# Altium schematic symbol library BrewBit.SchLib: 45 symbols
Pins are listed as number, name and electrical type; pins without a type are passive.

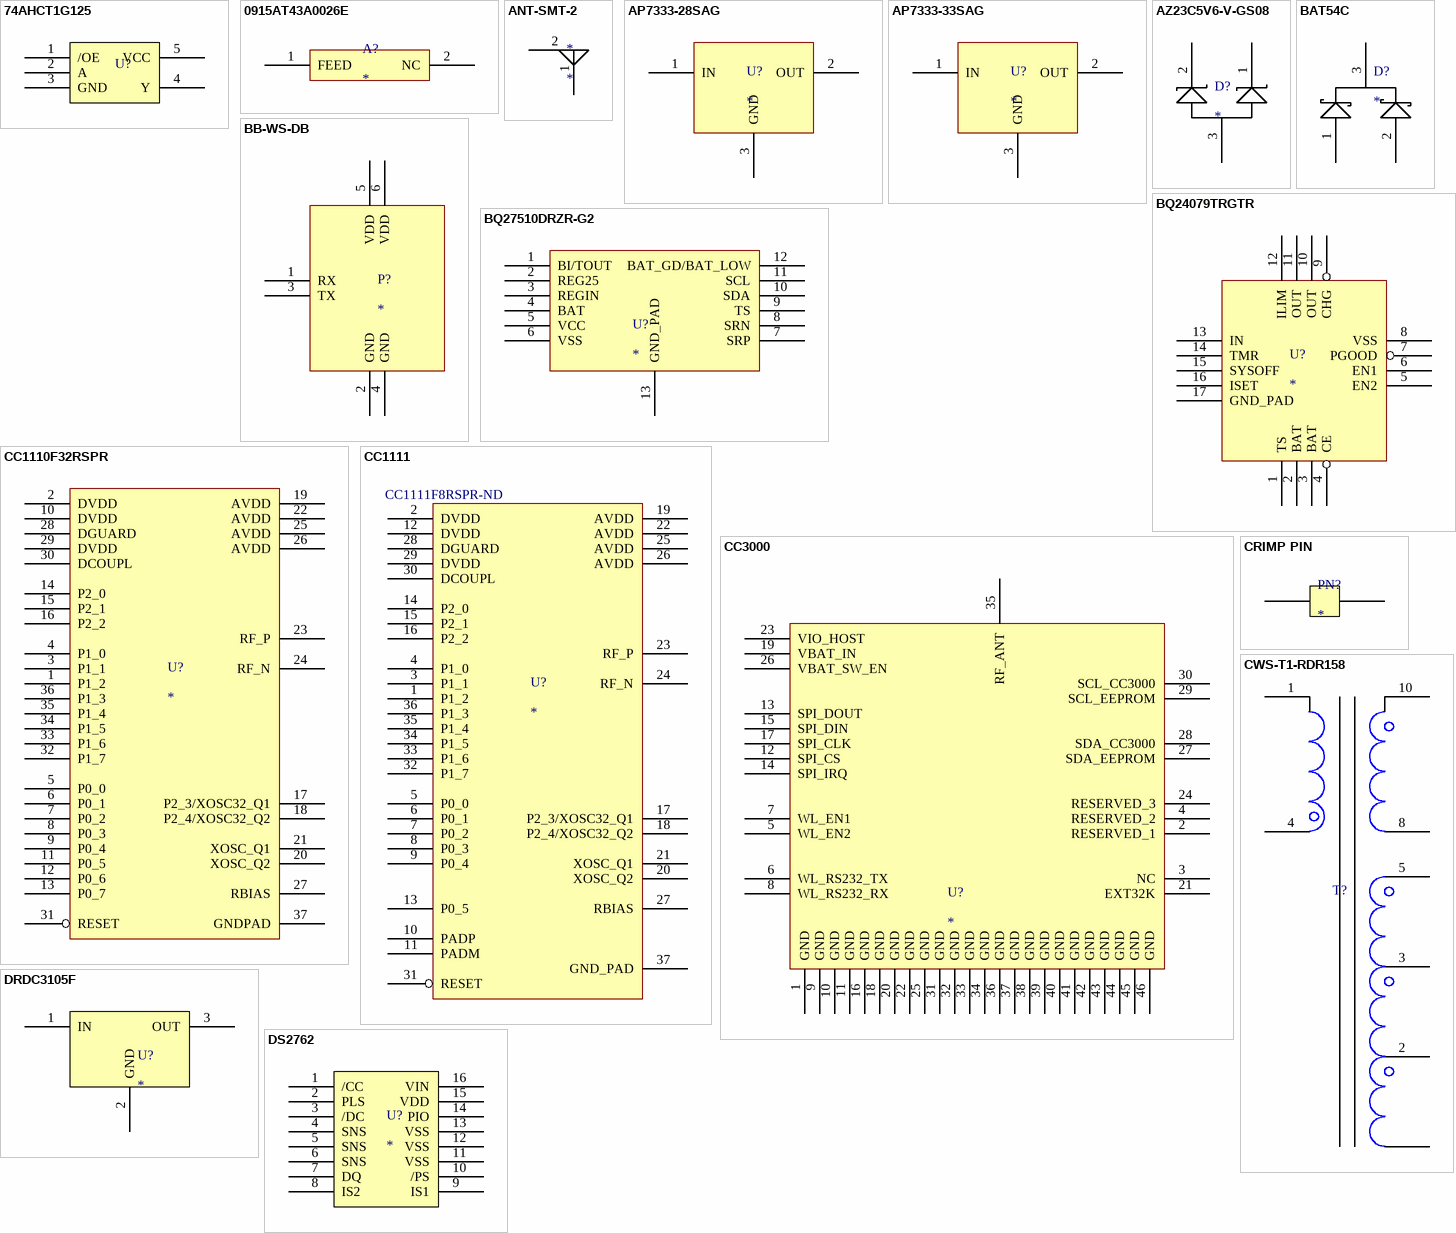
[diagram p0: symbols 74AHCT1G125 to DS2762]

## 74AHCT1G125
designator U?  (value not drawn)
SINGLE BUFFER GATE WITH 3-STATE OUTPUT
pins: 1 /OE, 2 A, 3 GND, 4 Y, 5 VCC

## 0915AT43A0026E
designator A?
RF CHIP ANTENNA 902 - 928MHZ; Manufacturer: Johanson Technology Inc; Manufacturer Part Number: 0915AT43A0026E; Number of Bands: 1; Frequency: 902MHz ~ 928MHz; Gain: -1dBi; Supplier 1: Digi-Key; RoHS: RoHS Compliant; Category: RF/IF and RFID; Stock 1: 832; Pricing 1: 1=1.22, 10=1.022, 25=0.8808, 50=0.8266, 100=0.6525, 250=0.54376, 500=0.48938 (USD); Antenna Type: Chip; VSWR: -; Termination: Surface Mount; Mounting Type: Surface Mount; Height (Max): -; Packaging: Cut Tape (CT); Supplier Part Number 1: 712-1535-1-ND
footprint 0915AT43A0026
pins: 1 FEED, 2 NC

## ANT-SMT-2
designator *
pins: 1, 2

## AP7333-28SAG
designator U?
2.8V LDO Regulator; Supplier 1: Digi-Key; Supplier Part Number 1: AP7333-28SAG-7DICT-ND
footprint SOT23
pins: 1 IN, 2 OUT, 3 GND

## AP7333-33SAG
designator U?
3.3V LDO Regulator; Supplier 1: Digi-Key; Supplier Part Number 1: AP7333-33SAG-7DICT-ND
footprint SOT23
pins: 1 IN, 2 OUT, 3 GND

## AZ23C5V6-V-GS08
designator D?
Zener Diodes 5.6 Volt 0.3W 5% CA; Manufacturer: Vishay Semiconductors; Manufacturer Part Number: AZ23C5V6-V-GS08; Power Dissipation: 300 mW; Zener Current: 5 mA; Maximum Zener Impedance: 40 Ohms; Voltage Temperature Coefficient: 0.02 % / C; Zener Voltage: 5.2 V to 6 V; Supplier 1: Mouser; RoHS: RoHS Compliant By Exemption; Category: Zener Diodes; Stock 1: 26255; Pricing 1: 1=0.070, 10=0.050, 50=0.049, 100=0.048, 500=0.041, 1000=0.038, 3000=0.037, 9000=0.036, 18000=0.035 (USD); Package / Case: SOT-23; Packaging: Reel; Mounting Style: SMD/SMT; Maximum Operating Temperature: + 150 C; Minimum Operating Temperature: - 65 C; Product Category: Zener Diodes; Standard Pack Qty: 15000; Voltage Tolerance: 5 %; RoHS - Mouser: E; Minimum Order Quantity: 1; Reeling: True; ComponentLink1URL: http://www.vishay.com/doc?85759; ComponentLink1Description: http://www.vishay.com/doc?85759; Supplier Part Number 1: 78-AZ23C5V6-V
pins: 1, 2, 3

## BAT54C
designator D?
FAIRCHILD SEMICONDUCTOR - BAT54C - SCHOTTKY RECTIFIER, CMN CTHD 0.2A SOT-23; Diode Configuration: Common Cathode; Repetitive Reverse Voltage Vrrm Max: 30; Forward Current If(AV): 200; Forward Voltage VF Max: 800; Reverse Recovery Time trr Max: 5; Supplier 1: Newark; Manufacturer: FAIRCHILD SEMICONDUCTOR; Manufacturer Part Number: BAT54C; RoHS: YES; Stock 1: 19500; Pricing 1: 1=0.037, 25=0.033, 100=0.033, 250=0.028, 500=0.025, 1000=0.024 (USD); Diode Type: Schottky; ComponentLink1URL: http://www.fairchildsemi.com/ds/BA/BAT54C.pdf; ComponentLink1Description: http://www.fairchildsemi.com/ds/BA/BAT54C.pdf; Supplier Part Number 1: 35C0398
pins: 1, 2, 3

## BB-WS-DB
designator P?
BrewBit Wireless Sensor Daughter Board; Supplier Part Number 1: 3M9359TR-ND; Supplier: Digi-Key
footprint 10 Pin SMT Header (For 951110-4620-AR-PR)
pins: 1 RX, 2 GND, 3 TX, 4 GND, 5 VDD, 6 VDD

## BQ24079TRGTR
designator U?
IC LI-ION CHARGE/PWR MGMT 16QFN; Manufacturer: Texas Instruments; Manufacturer Part Number: BQ24079TRGTR; Function: Charge Management; Battery Chemistry: Lithium-Ion (Li-Ion); Voltage - Supply: 4.35 V ~ 26 V; Supplier 1: Digi-Key; RoHS: RoHS Compliant; Category: Integrated Circuits (ICs); Stock 1: 2351; Pricing 1: 1=2.88, 10=2.58, 25=2.32, 100=2.11, 250=1.91, 500=1.71, 1000=1.44 (USD); Operating Temperature: -40°C ~ 85°C; Mounting Type: Surface Mount; Package / Case: 16-VFQFN Exposed Pad; Supplier Device Package: 16-QFN-EP (3x3); Packaging: Cut Tape (CT); ComponentLink1URL: http://www.ti.com/lit/ds/symlink/bq24075t.pdf; ComponentLink1Description: http://www.ti.com/lit/ds/symlink/bq24075t.pdf; Supplier Part Number 1: 296-25610-1-ND
footprint S-PVQFN-N16
pins: 1 TS, 2 BAT, 3 BAT, 4 CE, 5 EN2, 6 EN1, 7 PGOOD, 8 VSS, 9 CHG, 10 OUT, 11 OUT, 12 ILIM, 13 IN, 14 TMR, 15 SYSOFF, 16 ISET, 17 GND_PAD

## BQ27510DRZR-G2
designator U?
IC BATT FUEL GAUGE LI-ION 12SON; Manufacturer: Texas Instruments; Manufacturer Part Number: BQ27510DRZR-G2; Function: Fuel, Gas Gauge/Monitor; Battery Chemistry: Lithium-Ion (Li-Ion); Voltage - Supply: 2.7 V ~ 5.5 V; Supplier 1: Digi-Key; RoHS: RoHS Compliant; Category: Integrated Circuits (ICs); Stock 1: 1001; Pricing 1: 1=4.18, 10=3.741, 25=3.364, 100=3.0595, 250=2.76952, 500=2.4795, 1000=2.088 (USD); Operating Temperature: -40°C ~ 85°C; Mounting Type: Surface Mount; Package / Case: 12-VFDFN Exposed Pad; Supplier Device Package: 12-SON Exposed Pad (2.5x4); Packaging: Cut Tape (CT); ComponentLink1URL: http://www.ti.com/lit/ds/symlink/bq27510-g2.pdf; ComponentLink1Description: http://www.ti.com/lit/ds/symlink/bq27510-g2.pdf; Supplier 2: Mouser; Supplier Part Number 1: 296-27728-1-ND; Supplier Part Number 2: 595-BQ27510DRZT-G2
footprint S-PDSO-N12
pins: 1 BI/TOUT, 2 REG25, 3 REGIN, 4 BAT, 5 VCC, 6 VSS, 7 SRP, 8 SRN, 9 TS, 10 SDA, 11 SCL, 12 BAT_GD/BAT_LOW, 13 GND_PAD

## CC1110F32RSPR
designator U?
RF Microcontrollers (MCU) True System-on-Chip; Manufacturer: Texas Instruments; Manufacturer Part Number: CC1110F32RSPR; Interface Type: 3-Wire SPI; Supply Voltage (Max): 3.6 V; Supply Voltage (Min): 2 V; Operating Supply Voltage: 2 V to 3.6 V; Supplier 1: Mouser; RoHS: RoHS Compliant; Category: RF Microcontrollers (MCU); Stock 1: 10995; Pricing 1: 1=5.75, 25=4.60, 100=3.68, 250=3.06, 500=2.99, 1000=2.95, 2000=2.90, 2500=2.90 (USD); Operating Temperature Range: - 40 C to + 85 C; Package / Case: QFN-36; Packaging: Reel; Mounting Style: SMD/SMT; Maximum Operating Temperature: + 85 C; Minimum Operating Temperature: - 40 C; Product Category: RF Integrated Circuits; Standard Pack Qty: 2500; RoHS - Mouser: Y; Minimum Order Quantity: 1; Reeling: True; ComponentLink1URL: http://www.ti.com/lit/ds/symlink/cc1110f32.pdf; ComponentLink1Description: http://www.ti.com/lit/ds/symlink/cc1110f32.pdf; Supplier 2: Digi-Key; Supplier Part Number 1: 595-CC1110F32RSPR; Supplier Part Number 2: 296-22740-1-ND
footprint TI_QFP36
pins: 1 P1_2, 2 DVDD, 3 P1_1, 4 P1_0, 5 P0_0, 6 P0_1, 7 P0_2, 8 P0_3, 9 P0_4, 10 DVDD, 11 P0_5, 12 P0_6, 13 P0_7, 14 P2_0, 15 P2_1, 16 P2_2, 17 P2_3/XOSC32_Q1, 18 P2_4/XOSC32_Q2, 19 AVDD, 20 XOSC_Q2, 21 XOSC_Q1, 22 AVDD, 23 RF_P, 24 RF_N, 25 AVDD, 26 AVDD, 27 RBIAS, 28 DGUARD, 29 DVDD, 30 DCOUPL, 31 RESET, 32 P1_7, 33 P1_6, 34 P1_5, 35 P1_4, 36 P1_3, 37 GNDPAD

## CC1111
designator U?  Supplier Part Number 3: CC1111F8RSPR-ND
RF Microcontrollers (MCU) True System-on-Chip; Manufacturer: Texas Instruments; Manufacturer Part Number: CC1110F32RSPR; Interface Type: 3-Wire SPI; Supply Voltage (Max): 3.6 V; Supply Voltage (Min): 2 V; Operating Supply Voltage: 2 V to 3.6 V; Supplier 1: Mouser; RoHS: RoHS Compliant; Category: RF Microcontrollers (MCU); Stock 1: 10995; Pricing 1: 1=5.75, 25=4.60, 100=3.68, 250=3.06, 500=2.99, 1000=2.95, 2000=2.90, 2500=2.90 (USD); Operating Temperature Range: - 40 C to + 85 C; Package / Case: QFN-36; Packaging: Reel; Mounting Style: SMD/SMT; Maximum Operating Temperature: + 85 C; Minimum Operating Temperature: - 40 C; Product Category: RF Integrated Circuits; Standard Pack Qty: 2500; RoHS - Mouser: Y; Minimum Order Quantity: 1; Reeling: True; ComponentLink1URL: http://www.ti.com/lit/ds/symlink/cc1110f32.pdf; ComponentLink1Description: http://www.ti.com/lit/ds/symlink/cc1110f32.pdf; Supplier 2: Digi-Key; Supplier Part Number 1: 595-CC1110F32RSPR; Supplier Part Number 2: 296-22740-1-ND; Supplier 3: Digi-Key
footprint TI_QFP36
pins: 1 P1_2, 2 DVDD, 3 P1_1, 4 P1_0, 5 P0_0, 6 P0_1, 7 P0_2, 8 P0_3, 9 P0_4, 10 PADP, 11 PADM, 12 DVDD, 13 P0_5, 14 P2_0, 15 P2_1, 16 P2_2, 17 P2_3/XOSC32_Q1, 18 P2_4/XOSC32_Q2, 19 AVDD, 20 XOSC_Q2, 21 XOSC_Q1, 22 AVDD, 23 RF_P, 24 RF_N, 25 AVDD, 26 AVDD, 27 RBIAS, 28 DGUARD, 29 DVDD, 30 DCOUPL, 31 RESET, 32 P1_7, 33 P1_6, 34 P1_5, 35 P1_4, 36 P1_3, 37 GND_PAD

## CC3000
designator U?
CC3000 WLAN Module
footprint CC3000 (CC3000 WLAN Module)
pins: 1 GND, 2 RESERVED_1, 3 NC, 4 RESERVED_2, 5 WL_EN2, 6 WL_RS232_TX, 7 WL_EN1, 8 WL_RS232_RX, 9 GND, 10 GND, 11 GND, 12 SPI_CS, 13 SPI_DOUT, 14 SPI_IRQ, 15 SPI_DIN, 16 GND, 17 SPI_CLK, 18 GND, 19 VBAT_IN, 20 GND, 21 EXT32K, 22 GND, 23 VIO_HOST, 24 RESERVED_3, 25 GND, 26 VBAT_SW_EN, 27 SDA_EEPROM, 28 SDA_CC3000, 29 SCL_EEPROM, 30 SCL_CC3000, 31 GND, 32 GND, 33 GND, 34 GND, 35 RF_ANT, 36 GND, 37 GND, 38 GND, 39 GND, 40 GND, 41 GND, 42 GND, 43 GND, 44 GND, 45 GND, 46 GND

## CRIMP PIN
designator PN?
CRIMP PIN
pins: ?1, ?2

## CWS-T1-RDR158
designator T?
Flyback transformer
footprint CWS-T1-RDR158
pins: 1, 2, 3, 4, 5, 8, 10

## DRDC3105F
designator U?
INTEGRATED RELAY, INDUCTIVE LOAD DRIVER; Supplier Part Number 1: DRDC3105F-7DICT-ND; Supplier 1: Digi-Key
footprint SOT23
pins: 1 IN, 2 GND, 3 OUT

## DS2762
designator U?
High-Precision Li+ Battery Monitor With Alerts; Supplier 1: Digi-Key; Supplier Part Number 1: DS2762AE+-ND
footprint TSSOP-16
pins: 1 /CC, 2 PLS, 3 /DC, 4 SNS, 5 SNS, 6 SNS, 7 DQ, 8 IS2, 9 IS1, 10 /PS, 11 VSS, 12 VSS, 13 VSS, 14 PIO, 15 VDD, 16 VIN

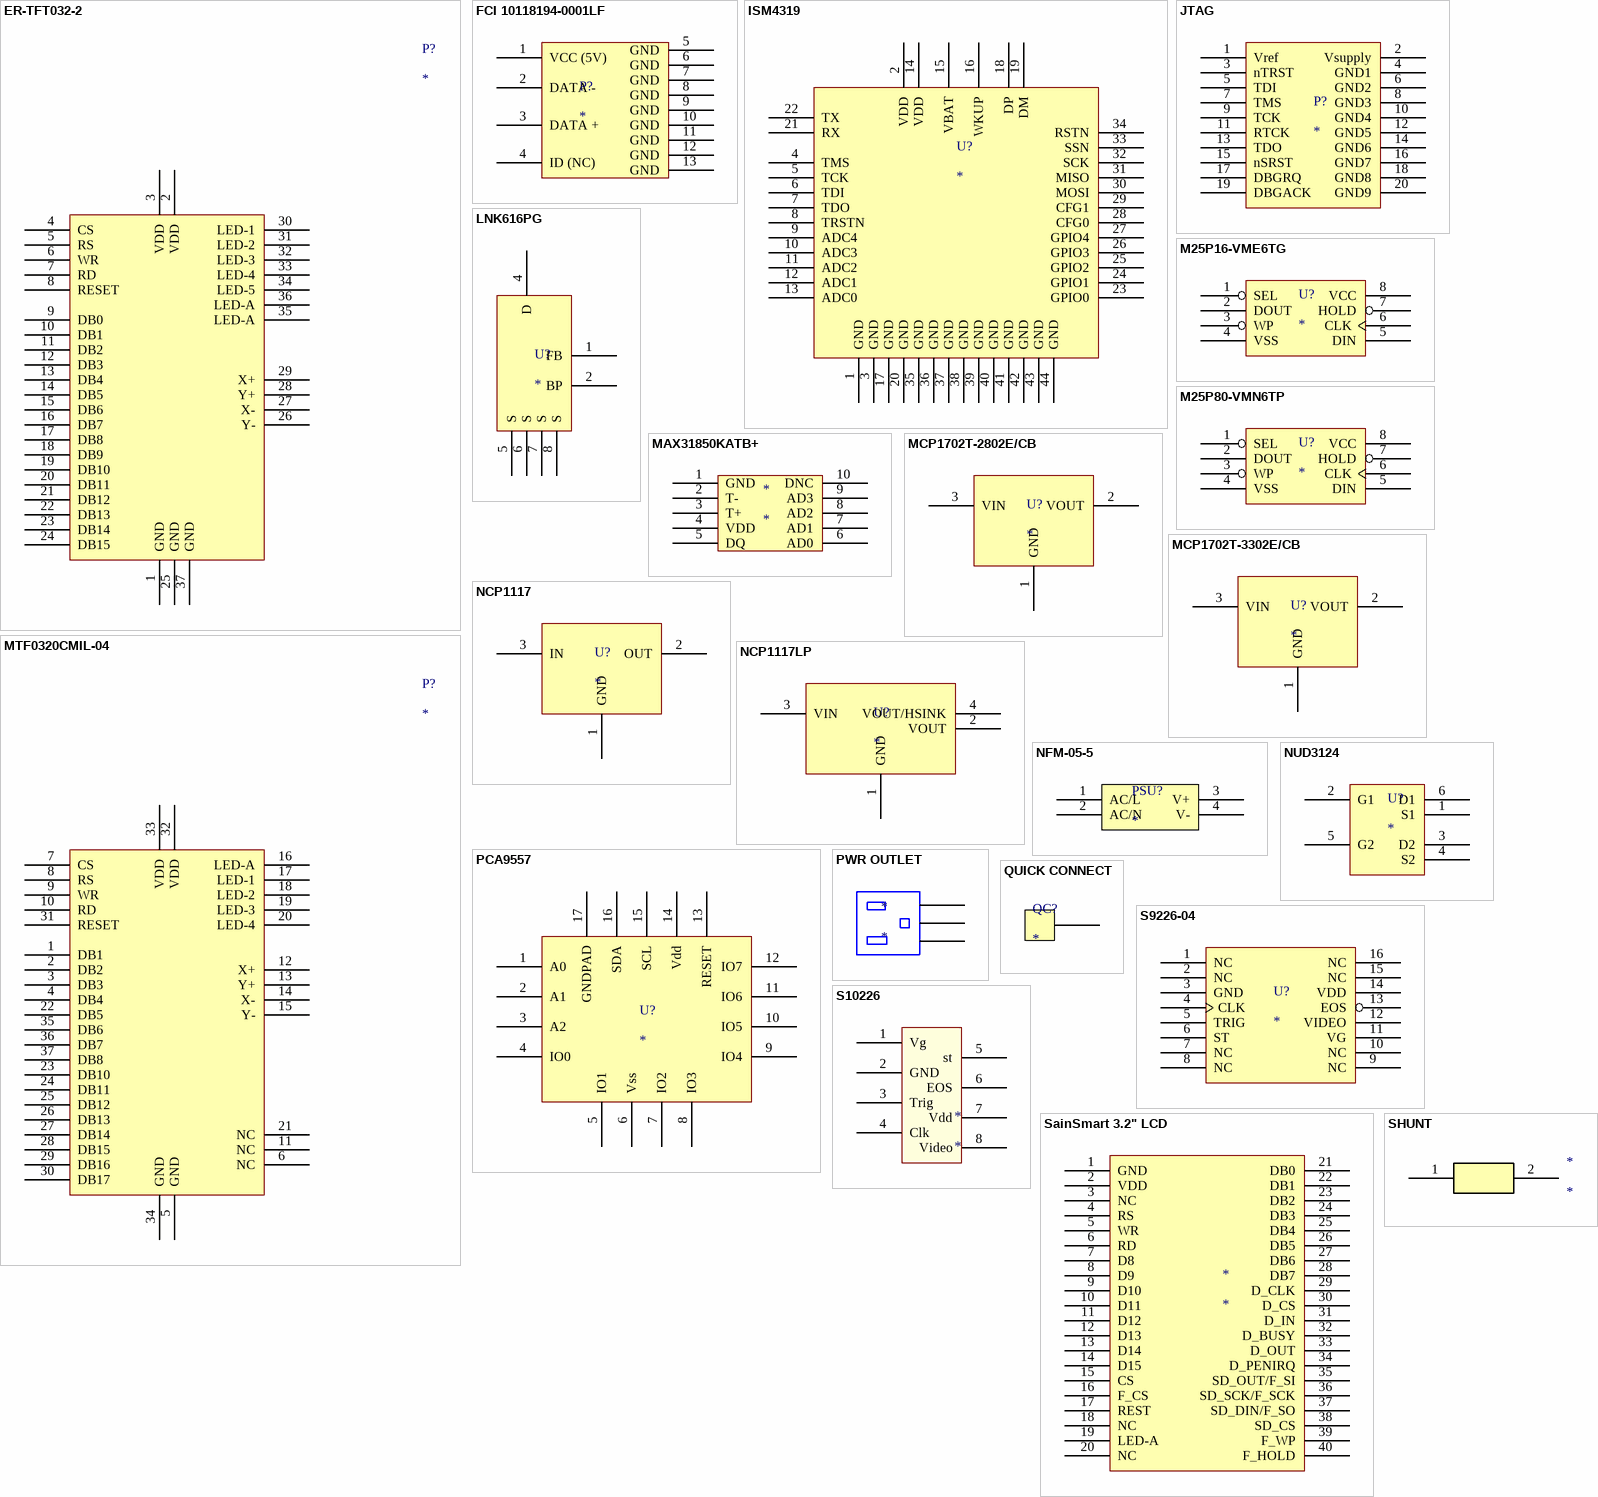
[diagram p1: symbols ER-TFT032-2 to SHUNT]

## ER-TFT032-2
designator P?
3.2" TFT LCD module with touch panel
footprint ER-TFT032-2 (East Rising 3.2" TFT LCD)
pins: 1 GND, 2 VDD, 3 VDD, 4 CS, 5 RS, 6 WR, 7 RD, 8 RESET, 9 DB0, 10 DB1, 11 DB2, 12 DB3, 13 DB4, 14 DB5, 15 DB6, 16 DB7, 17 DB8, 18 DB9, 19 DB10, 20 DB11, 21 DB12, 22 DB13, 23 DB14, 24 DB15, 25 GND, 26 Y-, 27 X-, 28 Y+, 29 X+, 30 LED-1, 31 LED-2, 32 LED-3, 33 LED-4, 34 LED-5, 35 LED-A, 36 LED-A, 37 GND

## FCI 10118194-0001LF
designator P?
CONN USB MICRO B RECPT SMT R/A
footprint CONN USB MICRO B RECPT SMT R/A
pins: 1 VCC (5V), 2 DATA -, 3 DATA +, 4 ID (NC), 5 GND, 6 GND, 7 GND, 8 GND, 9 GND, 10 GND, 11 GND, 12 GND, 13 GND

## ISM4319
designator U?
Inventek Systems WiFi Module
footprint ISM-WIFI
pins: 1 GND, 2 VDD, 3 GND, 4 TMS, 5 TCK, 6 TDI, 7 TDO, 8 TRSTN, 9 ADC4, 10 ADC3, 11 ADC2, 12 ADC1, 13 ADC0, 14 VDD, 15 VBAT, 16 WKUP, 17 GND, 18 DP, 19 DM, 20 GND, 21 RX, 22 TX, 23 GPIO0, 24 GPIO1, 25 GPIO2, 26 GPIO3, 27 GPIO4, 28 CFG0, 29 CFG1, 30 MOSI, 31 MISO, 32 SCK, 33 SSN, 34 RSTN, 35 GND, 36 GND, 37 GND, 38 GND, 39 GND, 40 GND, 41 GND, 42 GND, 43 GND, 44 GND

## JTAG
designator P?
Standard JTAG Header; Supplier Part Number 1: S9172-ND; Supplier 1: Digi-Key
footprint JTAG Header (SBH11-PBPC-D10-ST-BK)
pins: 1 Vref, 2 Vsupply, 3 nTRST, 4 GND1, 5 TDI, 6 GND2, 7 TMS, 8 GND3, 9 TCK, 10 GND4, 11 RTCK, 12 GND5, 13 TDO, 14 GND6, 15 nSRST, 16 GND7, 17 DBGRQ, 18 GND8, 19 DBGACK, 20 GND9

## LNK616PG
designator U?
Energy-Efficient, Accurate CV/CC Switcher  for Adapters and Chargers
footprint LNK6XX
pins: 1 FB, 2 BP, 4 D, 5 S, 6 S, 7 S, 8 S

## M25P16-VME6TG
designator U?
IC FLASH 16MBIT 75MHZ 8VDFPN; Manufacturer: Micron Technology Inc; Manufacturer Part Number: M25P16-VME6TG; Memory Type: FLASH - Nor; Memory Size: 16M (2M x 8); Interface: SPI Serial; Voltage - Supply: 2.7 V ~ 3.6 V; Supplier 1: Digi-Key; RoHS: RoHS Compliant; Category: Integrated Circuits (ICs); Stock 1: 3584; Pricing 1: 1=1.17, 10=1.062, 25=1.0488, 50=1.0428, 100=0.9322, 250=0.92436, 500=0.91066, 1000=0.87785 (USD); Format - Memory: FLASH; Speed: 75MHz; Operating Temperature: -40°C ~ 85°C; Package / Case: 8-VDFN Exposed Pad; Supplier Device Package: 8-VDFPN (MLP8) (8x6); Packaging: Cut Tape (CT); ComponentLink1URL: http://media.digikey.com/pdf/Data%20Sheets/Numonyx,Intel/M25P16.pdf; ComponentLink1Description: http://media.digikey.com/pdf/Data%20Sheets/Numonyx,Intel/M25P16.pdf; Supplier Part Number 1: M25P16-VME6TGCT-ND
footprint VQFNPN8
pins: 1 SEL, 2 DOUT, 3 WP, 4 VSS, 5 DIN, 6 CLK, 7 HOLD, 8 VCC

## M25P80-VMN6TP
designator U?
IC FLASH 8MBIT 75MHZ SO8N; Supplier 1: Digi-Key; Supplier Part Number 1: M25P80-VMN6TPCT-ND
footprint SO8N
pins: 1 SEL, 2 DOUT, 3 WP, 4 VSS, 5 DIN, 6 CLK, 7 HOLD, 8 VCC

## MAX31850KATB+
designator *
pins: 1 GND, 2 T-, 3 T+, 4 VDD, 5 DQ, 6 AD0, 7 AD1, 8 AD2, 9 AD3, 10 DNC

## MCP1702T-2802E/CB
designator U?
2.8V LDO Regulator; Supplier 1: Digi-Key; Supplier Part Number 1: MCP1702T-2802E/CBCT-ND
footprint SOT23
pins: 1 GND, 2 VOUT, 3 VIN

## MCP1702T-3302E/CB
designator U?
3.3V LDO Regulator; Supplier 1: Digi-Key
footprint SOT23
pins: 1 GND, 2 VOUT, 3 VIN

## MTF0320CMIL-04
designator P?
3.2" TFT LCD module with touch panel
footprint 37 Pin 1mm pitch FPC
pins: 1 DB1, 2 DB2, 3 DB3, 4 DB4, 5 GND, 6 NC, 7 CS, 8 RS, 9 WR, 10 RD, 11 NC, 12 X+, 13 Y+, 14 X-, 15 Y-, 16 LED-A, 17 LED-1, 18 LED-2, 19 LED-3, 20 LED-4, 21 NC, 22 DB5, 23 DB10, 24 DB11, 25 DB12, 26 DB13, 27 DB14, 28 DB15, 29 DB16, 30 DB17, 31 RESET, 32 VDD, 33 VDD, 34 GND, 35 DB6, 36 DB7, 37 DB8

## NCP1117
designator U?
3.3V LDO Regulator
footprint 369C
pins: 1 GND, 2 OUT, 3 IN

## NCP1117LP
designator U?
1.0 A Low-Dropout Positive  Fixed and Adjustable  Voltage Regulators; Supplier 1: Digi-Key; Supplier Part Number 1: NCP1117LPST33T3GOSCT-ND
footprint SOT-223
pins: 1 GND, 2 VOUT, 3 VIN, 4 VOUT/HSINK

## NFM-05-5
designator PSU?
5V 5W AC/DC Power Supply
footprint NFM-05-5 (5V 5W AC/DC power supply)
pins: 1 AC/L, 2 AC/N, 3 V+, 4 V-

## NUD3124
designator U?
Automotive Inductive Load  Driver
pins: 1 S1, 2 G1, 3 D2, 4 S2, 5 G2, 6 D1

## PCA9557
designator U?
8 channel IO expander
footprint PCA9557BS
pins: 1 A0, 2 A1, 3 A2, 4 IO0, 5 IO1, 6 Vss, 7 IO2, 8 IO3, 9 IO4, 10 IO5, 11 IO6, 12 IO7, 13 RESET, 14 Vdd, 15 SCL, 16 SDA, 17 GNDPAD

## PWR OUTLET
designator *
pins: ?1, ?2, ?3

## QUICK CONNECT
designator QC?
QUICK CONNECT
pins: ?1

## S9226-04
designator U?
CMOS linear image sensor designed for image input applications
footprint S9226-04
pins: 1 NC, 2 NC, 3 GND, 4 CLK, 5 TRIG, 6 ST, 7 NC, 8 NC, 9 NC, 10 NC, 11 VG, 12 VIDEO, 13 EOS, 14 VDD, 15 NC, 16 NC

## S10226
designator *
Hamamatsu 1024 CMOS image sensor
footprint S10226
pins: 1 Vg, 2 GND, 3 Trig, 4 Clk, 5 st, 6 EOS, 7 Vdd, 8 Video

## SainSmart 3.2" LCD
designator *
footprint HDR2x20
pins: 1 GND, 2 VDD, 3 NC, 4 RS, 5 WR, 6 RD, 7 D8, 8 D9, 9 D10, 10 D11, 11 D12, 12 D13, 13 D14, 14 D15, 15 CS, 16 F_CS, 17 REST, 18 NC, 19 LED-A, 20 NC, 21 DB0, 22 DB1, 23 DB2, 24 DB3, 25 DB4, 26 DB5, 27 DB6, 28 DB7, 29 D_CLK, 30 D_CS, 31 D_IN, 32 D_BUSY, 33 D_OUT, 34 D_PENIRQ, 35 SD_OUT/F_SI, 36 SD_SCK/F_SCK, 37 SD_DIN/F_SO, 38 SD_CS, 39 F_WP, 40 F_HOLD

## SHUNT
designator *
Supplier Part Number 1: 952-1474-1-ND; Supplier 1: Digi-Key
footprint SHUNT - 8mm pitch
pins: 1, 2

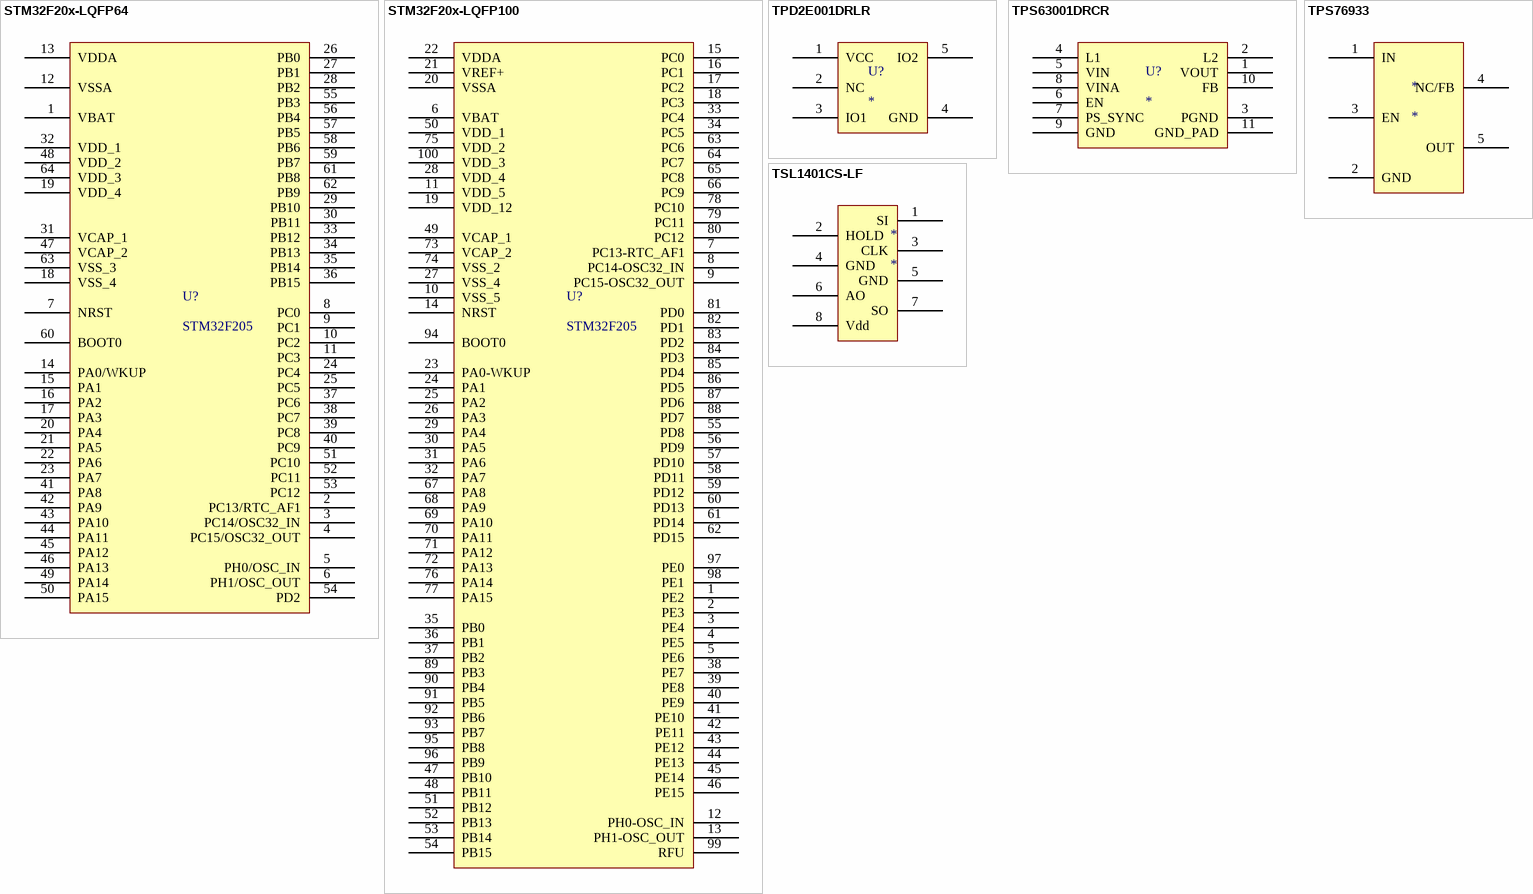
[diagram p2: symbols STM32F20x-LQFP64 to TSL1401CS-LF]

## STM32F20x-LQFP64
designator U?, comment STM32F205
STMicroelectronics STM32F20x LQFP64
footprint LQFP64
pins: 1 VBAT, 2 PC13/RTC_AF1, 3 PC14/OSC32_IN, 4 PC15/OSC32_OUT, 5 PH0/OSC_IN, 6 PH1/OSC_OUT, 7 NRST, 8 PC0, 9 PC1, 10 PC2, 11 PC3, 12 VSSA, 13 VDDA, 14 PA0/WKUP, 15 PA1, 16 PA2, 17 PA3, 18 VSS_4, 19 VDD_4, 20 PA4, 21 PA5, 22 PA6, 23 PA7, 24 PC4, 25 PC5, 26 PB0, 27 PB1, 28 PB2, 29 PB10, 30 PB11, 31 VCAP_1, 32 VDD_1, 33 PB12, 34 PB13, 35 PB14, 36 PB15, 37 PC6, 38 PC7, 39 PC8, 40 PC9, 41 PA8, 42 PA9, 43 PA10, 44 PA11, 45 PA12, 46 PA13, 47 VCAP_2, 48 VDD_2, 49 PA14, 50 PA15, 51 PC10, 52 PC11, 53 PC12, 54 PD2, 55 PB3, 56 PB4, 57 PB5, 58 PB6, 59 PB7, 60 BOOT0, 61 PB8, 62 PB9, 63 VSS_3, 64 VDD_3

## STM32F20x-LQFP100
designator U?, comment STM32F205
STMicroelectronics STM32F20x LQFP100
footprint LQFP-100
pins: 1 PE2, 2 PE3, 3 PE4, 4 PE5, 5 PE6, 6 VBAT, 7 PC13-RTC_AF1, 8 PC14-OSC32_IN, 9 PC15-OSC32_OUT, 10 VSS_5, 11 VDD_5, 12 PH0-OSC_IN, 13 PH1-OSC_OUT, 14 NRST, 15 PC0, 16 PC1, 17 PC2, 18 PC3, 19 VDD_12, 20 VSSA, 21 VREF+, 22 VDDA, 23 PA0-WKUP, 24 PA1, 25 PA2, 26 PA3, 27 VSS_4, 28 VDD_4, 29 PA4, 30 PA5, 31 PA6, 32 PA7, 33 PC4, 34 PC5, 35 PB0, 36 PB1, 37 PB2, 38 PE7, 39 PE8, 40 PE9, 41 PE10, 42 PE11, 43 PE12, 44 PE13, 45 PE14, 46 PE15, 47 PB10, 48 PB11, 49 VCAP_1, 50 VDD_1, 51 PB12, 52 PB13, 53 PB14, 54 PB15, 55 PD8, 56 PD9, 57 PD10, 58 PD11, 59 PD12, 60 PD13, 61 PD14, 62 PD15, 63 PC6, 64 PC7, 65 PC8, 66 PC9, 67 PA8, 68 PA9, 69 PA10, 70 PA11, 71 PA12, 72 PA13, 73 VCAP_2, 74 VSS_2, 75 VDD_2, 76 PA14, 77 PA15, 78 PC10, 79 PC11, 80 PC12, 81 PD0, 82 PD1, 83 PD2, 84 PD3, 85 PD4, 86 PD5, 87 PD6, 88 PD7, 89 PB3, 90 PB4, 91 PB5, 92 PB6, 93 PB7, 94 BOOT0, 95 PB8, 96 PB9, 97 PE0, 98 PE1, 99 RFU, 100 VDD_3

## TPD2E001DRLR
designator U?
TVS DIODE 5.5VWM 100VC SOT5
footprint SOT-553
pins: 1 VCC, 2 NC, 3 IO1, 4 GND, 5 IO2

## TPS63001DRCR
designator U?
DC/DC Switching Regulators 96% Buck-Boost Conv; Manufacturer: Texas Instruments; Manufacturer Part Number: TPS63001DRCR; Number of Outputs: 1; Output Current: 1.8 A; Output Voltage: 5.5 V; Supplier 1: Mouser; RoHS: RoHS Compliant; Category: DC/DC Switching Regulators; Stock 1: 12364; Pricing 1: 1=3.65, 25=3.33, 100=3.07, 250=2.13, 500=2.02, 1000=1.91 (USD); Package / Case: SON-10; Packaging: Reel; Mounting Style: SMD/SMT; Product Category: Regulators - Non-Isolated Switching DC/DC; Standard Pack Qty: 3000; RoHS - Mouser: Y; Minimum Order Quantity: 1; Reeling: True; ComponentLink1URL: http://focus.ti.com/lit/ds/symlink/tps63000.pdf; ComponentLink1Description: http://focus.ti.com/lit/ds/symlink/tps63000.pdf; Supplier 2: Newark; Supplier 3: Digi-Key; Supplier Part Number 1: 595-TPS63001DRCR; Supplier Part Number 2: 85K1711; Supplier Part Number 3: 296-19643-1-ND
footprint S-PVSON-N10
pins: 1 VOUT, 2 L2, 3 PGND, 4 L1, 5 VIN, 6 EN, 7 PS_SYNC, 8 VINA, 9 GND, 10 FB, 11 GND_PAD

## TPS76933
designator *
footprint TPS76933 (IC REG LDO 3.3V .1A SOT-23-5)
pins: 1 IN, 2 GND, 3 EN, 4 NC/FB, 5 OUT

## TSL1401CS-LF
designator *
footprint TSL1401CS-LF solder bump linear array
pins: 1 SI, 2 HOLD, 3 CLK, 4 GND, 5 GND, 6 AO, 7 SO, 8 Vdd